# Altium footprint library FPGA.PcbLib: 1 footprints
Each footprint in its own frame and in the unit in brackets; x right, y up, seen from the top. Pads: shape width x height; smd on the part's side, far side on the other; paste and mask are expansions set on the pad; w line width, h text height; cw(c..) or ccw(c..) is an arc to the next point about the centre after c.
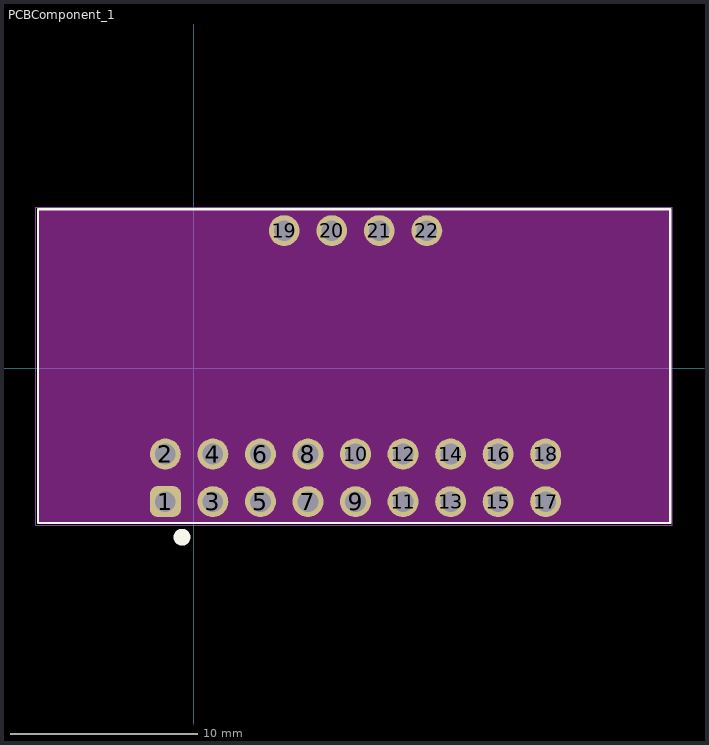
[diagram p0: the footprint, top view; thin cyan lines are the x and y axes]

## PCBComponent_1 [mm]
pads (22):
  rrect50% 1.65x1.65 hole 1.1: 1(-1.524,-7.112)
  round 1.65 hole 1.1: 2(-1.524,-4.572) 3(1.016,-7.112) 4(1.016,-4.572) 5(3.556,-7.112) 6(3.556,-4.572) 7(6.096,-7.112) 8(6.096,-4.572) 9(8.636,-7.112) 10(8.636,-4.572) 11(11.176,-7.112) 12(11.176,-4.572) 13(13.716,-7.112) 14(13.716,-4.572) 15(16.256,-7.112) 16(16.256,-4.572) 17(18.796,-7.112) 18(18.796,-4.572) 19(4.826,7.366) 20(7.366,7.366) 21(9.906,7.366) 22(12.446,7.366)
Top Overlay:
  circle w0.5: c-0.635,-9.017 r0.2
  lines w0.127: -8.331,-8.255 25.451,-8.255 25.451,8.509 -8.331,8.509 -8.331,-8.255
Keep-Out Layer:
  region: -8.331,-8.255 -8.331,8.509 25.451,8.509 25.451,-8.255
Mechanical 15:
  lines w0.05: 25.551,-8.373 -8.449,-8.373 -8.449,8.627 25.551,8.627 ; 25.559,-8.374 25.559,8.626